# EAGLE library part MC33174VDR2G (library FA3D_lib)
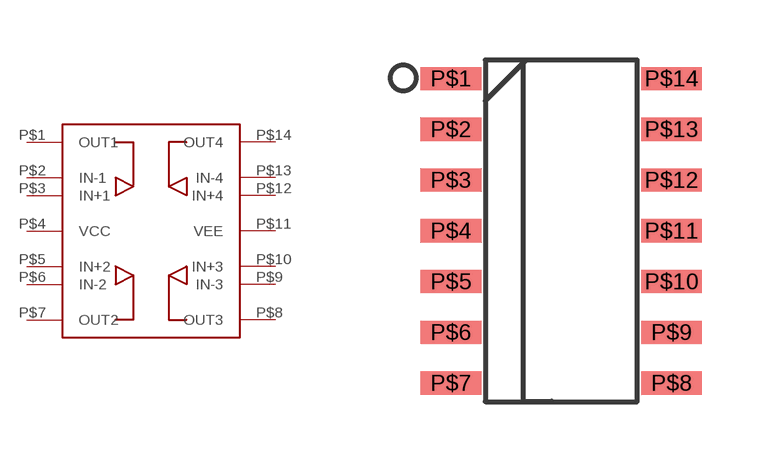
[diagram p13: symbol with the pads of SOIC-14; footprint SOIC-14]

Designator prefix -

## MC33174VDR2G  [SOIC-14]
P$1  OUT1
P$2  IN-1
P$3  IN+1
P$4  VCC
P$5  IN+2
P$6  IN-2
P$7  OUT2
P$8  OUT3
P$9  IN-3
P$10  IN+3
P$11  VEE
P$12  IN+4
P$13  IN-4
P$14  OUT4

## Footprint SOIC-14 (pad centres in mm)
smd 1.52 x 0.58: P$1 -2.76,3.81; P$2 -2.76,2.54; P$3 -2.76,1.27; P$4 -2.76,0; P$5 -2.76,-1.27; P$6 -2.76,-2.54; P$7 -2.76,-3.81; P$8 2.76,-3.81; P$9 2.76,-2.54; P$10 2.76,-1.27; P$11 2.76,0; P$12 2.76,1.27; P$13 2.76,2.54; P$14 2.76,3.81